# EAGLE library part ATTINY1614 (library HeRo)
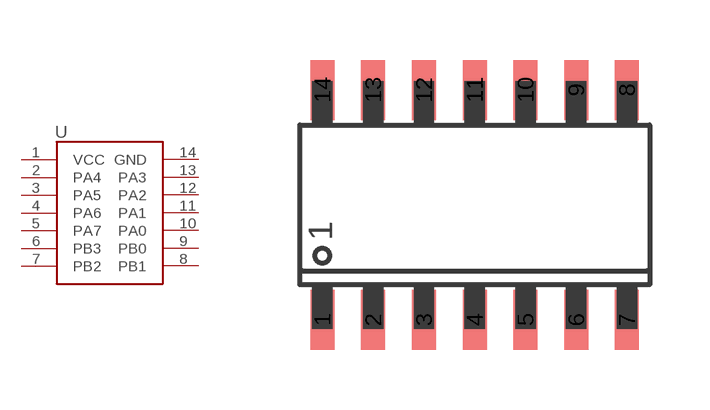
[diagram p0: symbol with the pads of SOIC14; footprint SOIC14]

Designator prefix -

## ATTINY1614  [SOIC14]
1  VCC
2  PA4
3  PA5
4  PA6
5  PA7
6  PB3
7  PB2
8  PB1
9  PB0
10  PA0
11  PA1
12  PA2
13  PA3
14  GND

## Footprint SOIC14 (pad centres in mm)
smd 0.6 x 1.5: 1 -3.81,-2.875; 2 -2.54,-2.875; 3 -1.27,-2.875; 4 0,-2.875; 5 1.27,-2.875; 6 2.54,-2.875; 7 3.81,-2.875; 8 3.81,2.875; 9 2.54,2.875; 10 1.27,2.875; 11 0,2.875; 12 -1.27,2.875; 13 -2.54,2.875; 14 -3.81,2.875